# Altium footprint library quartz_crystals_and_filters.PcbLib: 29 footprints (part 1 of 2)
Each footprint in its own frame and in the unit in brackets; x right, y up, seen from the top. Pads: shape width x height; smd on the part's side, far side on the other; paste and mask are expansions set on the pad; w line width, h text height; cw(c..) or ccw(c..) is an arc to the next point about the centre after c.
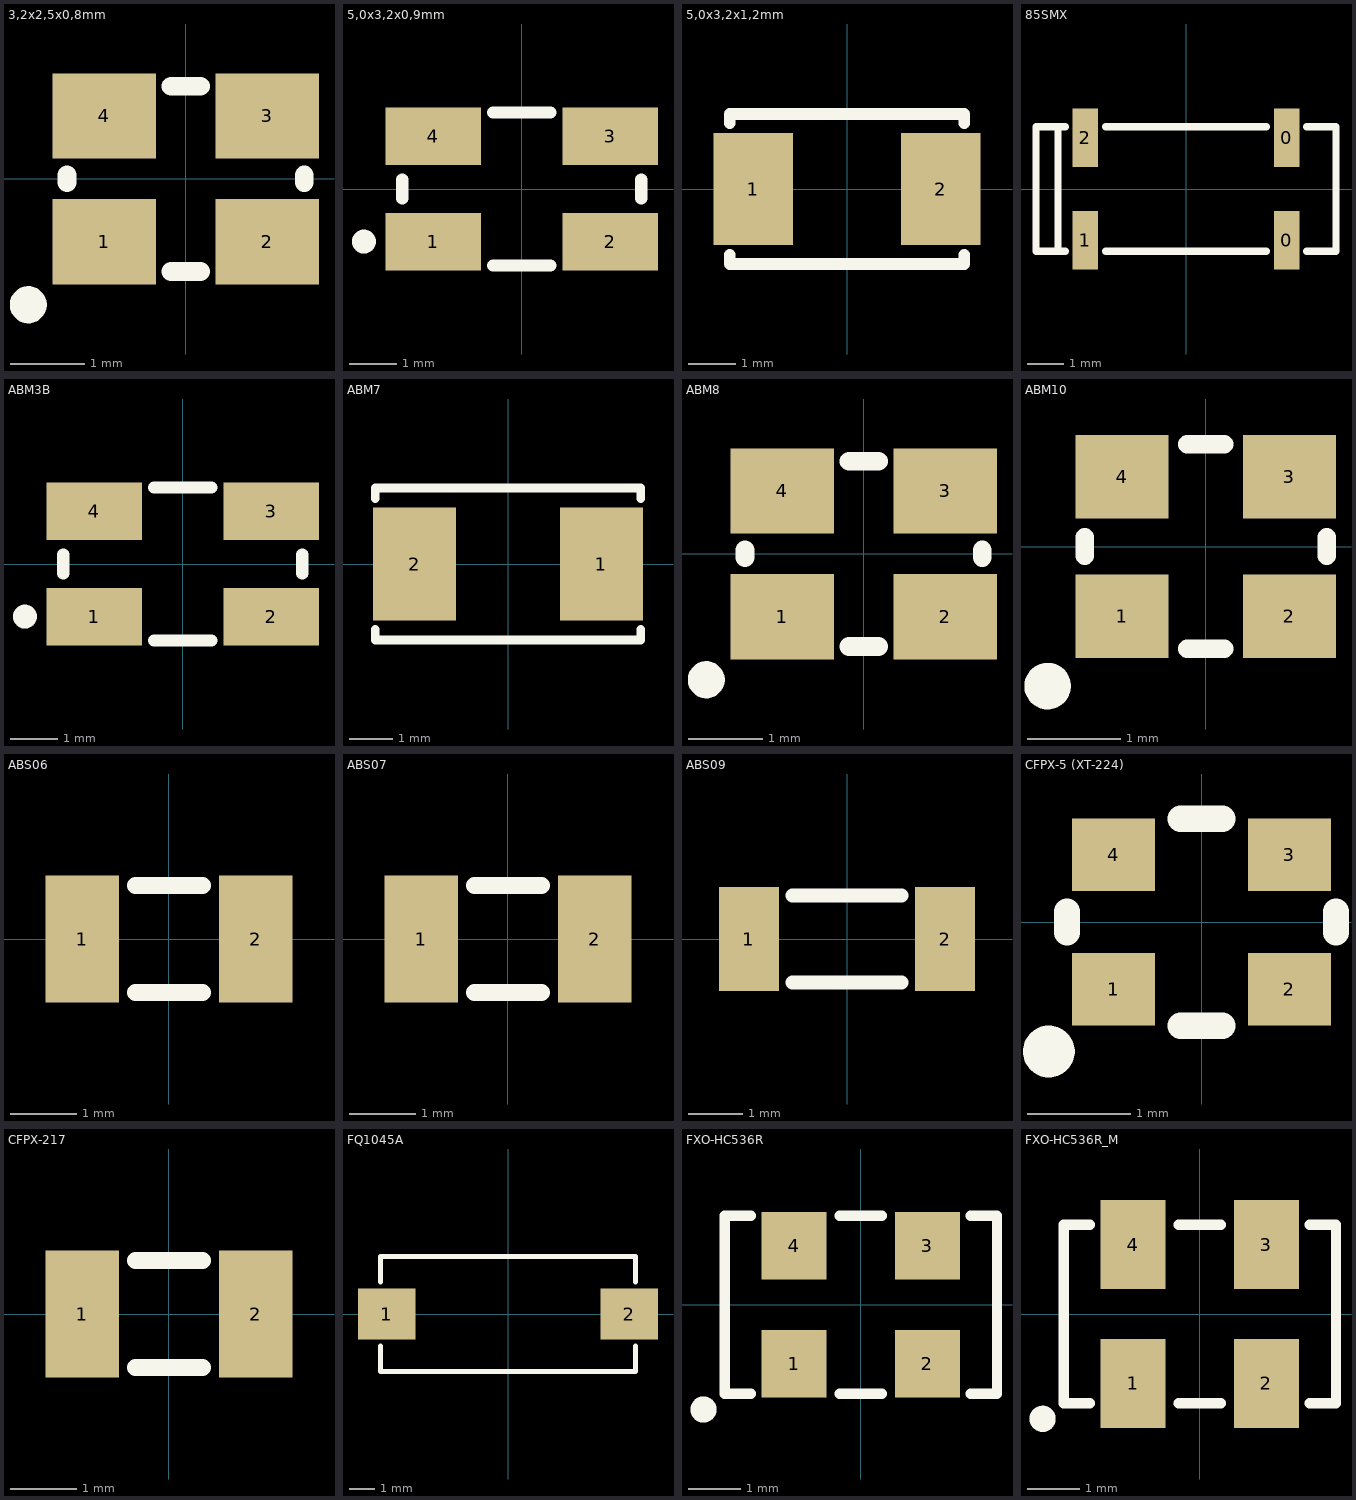
[diagram p0: the footprints below, top view; thin cyan lines are the x and y axes]

## 3,2x2,5x0,8mm [mm] "Quartz Crystal, SMD; Body 3.2 x 2.5 mm (LxW max), e.g. CFPX-5 (XT-324)"
height 1
pads (4):
  rect 1.4x1.15 smd: 1(-1.1,-0.85) 2(1.1,-0.85) 3(1.1,0.85) 4(-1.1,0.85)
Top Overlay:
  circle w0.25: c-2.125,-1.7 r0.125
  lines w0.254: -1.6,-0.05 -1.6,0.05 ; -0.2,-1.25 0.2,-1.25 ; -0.2,1.25 0.2,1.25 ; 1.6,-0.05 1.6,0.05
3D body "User Library-GeyerElectronics_KX7.step": height 0.81, standoff 0, extent -1.607,-1.25 1.607,1.25

## 5,0x3,2x0,9mm [mm] "Quartz Crystal, SMD; Body 5,0 x 3,2 mm (LxW max), e.g. Farnell 1842001"
height 0.9
pads (4):
  rect 2x1.2 smd: 1(-1.85,-1.1) 2(1.85,-1.1) 3(1.85,1.1) 4(-1.85,1.1)
Top Overlay:
  circle w0.25: c-3.3,-1.1 r0.125
  lines w0.254: -2.5,-0.2 -2.5,0.2 ; -0.6,-1.6 0.6,-1.6 ; -0.6,1.6 0.6,1.6 ; 2.5,-0.2 2.5,0.2
3D body "User Library-GeyerElectronics_KX9A.step": height 1.01, standoff 0, extent -2.5,-1.6 2.5,1.6

## 5,0x3,2x1,2mm [mm] "Quartz Crystal, SMD; Body 5,0 x 3,2 mm (LxW max), e.g. Farnell 1841957"
height 1.2
pads (2):
  rect 1.7x2.4 smd: 1(-2,0) 2(2,0)
Top Overlay:
  lines w0.25: -2.5,-1.4 -2.5,-1.6 2.5,-1.6 2.5,-1.4 ; -2.5,1.4 -2.5,1.6 2.5,1.6 2.5,1.4
3D body "User Library-GeyerElectronics_KX9B.step": height 1.12, standoff 0, extent -2.505,-1.605 2.505,1.605

## 85SMX [mm] "85SMX, 5.5mm lead spacing (IQD Frequency Products)"
height 2.5
pads (4):
  rect 0.7x1.6 smd: 0(2.75,-1.4) 0(2.75,1.4) 2(-2.75,1.4)
  rect 0.7x1.6 smd paste+0: 1(-2.75,-1.4)
Top Overlay:
  lines w0.2: -3.5,-1.7 -3.5,1.7 ; -3.3,-1.7 -4.1,-1.7 -4.1,1.7 -3.3,1.7 ; -2.2,-1.7 2.2,-1.7 ; -2.2,1.7 2.2,1.7 ; 3.3,-1.7 4.1,-1.7 4.1,1.7 3.3,1.7
3D body "User Library-ZM206.step": height 2.53, standoff 0, extent -4,-1.9 4,1.9

## ABM3B [mm] "Quartz Crystal, SMD; Body 5,0 x 3,2 mm (LxW max)"
height 1.1
pads (4):
  rect 2x1.2 smd: 1(-1.85,-1.1) 2(1.85,-1.1) 3(1.85,1.1) 4(-1.85,1.1)
Top Overlay:
  circle w0.25: c-3.3,-1.1 r0.125
  lines w0.254: -2.5,-0.2 -2.5,0.2 ; -0.6,-1.6 0.6,-1.6 ; -0.6,1.6 0.6,1.6 ; 2.5,-0.2 2.5,0.2
3D body "User Library-ABM3B.STEP": height 1.1, standoff 0, extent -2.503,-1.6 2.497,1.6

## ABM7 [mm] "ABM7 Quartz Crystal, SMD; Body 6 x 3,5 x 1,4 mm"
height 1.4
pads (2):
  rect 1.9x2.6 smd: 1(2.15,0) 2(-2.15,0)
Top Overlay:
  lines w0.2: -3.05,-1.5 -3.05,-1.75 3.05,-1.75 3.05,-1.5 ; -3.05,1.5 -3.05,1.75 3.05,1.75 3.05,1.5
3D body "User Library-ABM7.step": height 1.44, standoff 0, extent -3.05,-1.75 3.05,1.75

## ABM8 [mm] "Quartz Crystal, SMD; Body 3.2 x 2.5 mm (LxW max), e.g. CFPX-5 (XT-324)"
height 1
pads (4):
  rect 1.4x1.15 smd: 1(-1.1,-0.85) 2(1.1,-0.85) 3(1.1,0.85) 4(-1.1,0.85)
Top Overlay:
  circle w0.25: c-2.125,-1.7 r0.125
  lines w0.254: -1.6,-0.05 -1.6,0.05 ; -0.2,-1.25 0.2,-1.25 ; -0.2,1.25 0.2,1.25 ; 1.6,-0.05 1.6,0.05
3D body "User Library-GeyerElectronics_KX7.step": height 0.81, standoff 0, extent -1.607,-1.25 1.607,1.25

## ABM10 [mm] "ABM10 Quartz Crystal, SMD; Body 2,5 x 2,0 x 0,5 mm"
height 0.5
pads (4):
  rect 1x0.9 smd: 1(-0.9,-0.75) 2(0.9,-0.75) 3(0.9,0.75) 4(-0.9,0.75)
Top Overlay:
  circle w0.25: c-1.7,-1.5 r0.125
  lines w0.2: -1.3,-0.1 -1.3,0.1 ; -0.2,-1.1 0.2,-1.1 ; -0.2,1.1 0.2,1.1 ; 1.3,-0.1 1.3,0.1
3D body "User Library-ABM10_Xtal.step": height 0.7, standoff -0.01, extent -1.3,-1.05 1.3,1.05

## ABS06 [mm] "Quartz Crystal, SM; Body 2.0 x 1.2 mm (LxW max)"
height 0.9
pads (2):
  rect 1.1x1.9 smd: 1(-1.3,0) 2(1.3,0)
Top Overlay:
  lines w0.254: -0.5,-0.8 0.5,-0.8 ; -0.5,0.8 0.5,0.8
3D body "User Library-ABS06.STEP": height 0.6, standoff 0, extent -1,-0.61 1,0.61

## ABS07 [mm] "Quartz Crystal, SM; Body 3.2 x 1.5 mm (LxW max)"
height 0.9
pads (2):
  rect 1.1x1.9 smd: 1(-1.3,0) 2(1.3,0)
Top Overlay:
  lines w0.254: -0.5,-0.8 0.5,-0.8 ; -0.5,0.8 0.5,0.8
3D body "User Library-ABS07.STEP": height 0.91, standoff 0, extent -1.61,-0.76 1.61,0.76

## ABS09 [mm] "Quartz Crystal, SM; Body 4.1 x 1.5 mm (LxW max)"
height 0.9
pads (2):
  rect 1.1x1.9 smd: 1(-1.8,0) 2(1.8,0)
Top Overlay:
  lines w0.254: -1,-0.8 1,-0.8 ; -1,0.8 1,0.8
3D body "User Library-ABS09.STEP": height 0.91, standoff 0, extent -2.06,-0.76 2.06,0.76

## CFPX-5 (XT-224) [mm] "Quartz Crystal, SM; Body 2.6 x 2.1 mm (LxW max)"
height 1
pads (4):
  rect 0.8x0.7 smd: 1(-0.85,-0.65) 2(0.85,-0.65) 3(0.85,0.65) 4(-0.85,0.65)
Top Overlay:
  circle w0.25: c-1.475,-1.25 r0.125
  lines w0.254: -1.3,-0.1 -1.3,0.1 ; -0.2,-1 0.2,-1 ; -0.2,1 0.2,1 ; 1.3,-0.1 1.3,0.1

## CFPX-217 [mm] "Quartz Crystal, SM; Body 3.2 x 1.5 mm (LxW max)"
height 0.9
pads (2):
  rect 1.1x1.9 smd: 1(-1.3,0) 2(1.3,0)
Top Overlay:
  lines w0.254: -0.5,-0.8 0.5,-0.8 ; -0.5,0.8 0.5,0.8
3D body "User Library-ABS07.STEP": height 0.91, standoff 0, extent -1.61,-0.76 1.61,0.76

## FQ1045A [mm] "FOX 10x4.5x1.7mm Resin Sealed SMD Crystal"
height 1.7
pads (2):
  rect 2.25x2 smd: 1(-4.75,0) 2(4.75,0)
Top Overlay:
  lines w0.2: -5,-1.25 -5,-2.25 5,-2.25 5,-1.25 ; -5,1.25 -5,2.25 5,2.25 5,1.25
3D body: height 1.7, standoff 0, extent -4.5,-1.75 4.5,1.75
3D body: height 1.6, standoff 0, extent -5,-2.25 5,2.25

## FXO-HC536R [mm] "Fox Electronics HCMOS, CERAMIC, SMD, OSCILLATOR"
height 1.4
pads (4):
  rect 1.24x1.29 smd: 1(-1.27,-1.125) 2(1.27,-1.125) 3(1.27,1.125) 4(-1.27,1.125)
Top Overlay:
  circle w0.25: c-3,-2 r0.125
  lines w0.2: -2.1,-1.7 -2.6,-1.7 -2.6,1.7 -2.1,1.7 ; -0.4,-1.7 0.4,-1.7 ; -0.4,1.7 0.4,1.7 ; 2.1,-1.7 2.6,-1.7 2.6,1.7 2.1,1.7
3D body "User Library-FXO_LC53.step": height 1.39, standoff -0.01, extent -2.575,-1.675 2.575,1.675

## FXO-HC536R_M [mm] "Fox Electronics HCMOS, CERAMIC, SMD, OSCILLATOR"
height 1.4
pads (4):
  rect 1.24x1.7 smd: 1(-1.27,-1.325) 2(1.27,-1.325) 3(1.27,1.325) 4(-1.27,1.325)
Top Overlay:
  circle w0.25: c-3,-2 r0.125
  lines w0.2: -2.1,-1.7 -2.6,-1.7 -2.6,1.7 -2.1,1.7 ; -0.4,-1.7 0.4,-1.7 ; -0.4,1.7 0.4,1.7 ; 2.1,-1.7 2.6,-1.7 2.6,1.7 2.1,1.7
3D body "User Library-FXO_LC53.step": height 1.39, standoff -0.01, extent -2.575,-1.675 2.575,1.675